# EAGLE library part LTC3600 (library Lysenko_Eagle_Lib)
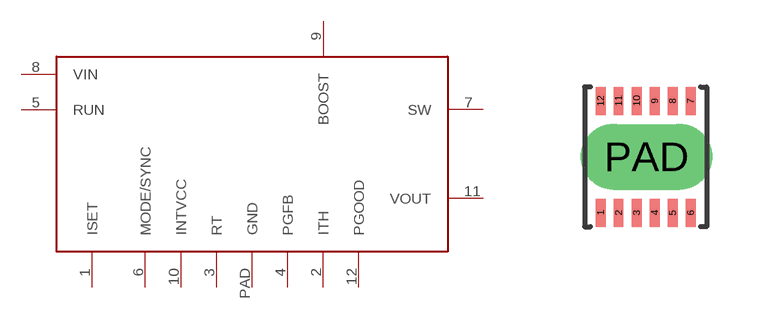
[diagram p17: symbol with the pads of DFN12; footprint DFN12]

Designator prefix -

## LTC3600  [DFN12]
1  ISET
2  ITH
3  RT
4  PGFB
5  RUN
6  MODE/SYNC
7  SW
8  VIN
9  BOOST
10  INTVCC
11  VOUT
12  PGOOD
PAD  GND

## Footprint DFN12 (pad centres in mm)
smd 0.25 x 0.7: 1 0,0; 2 0.45,0; 3 0.9,0; 4 1.35,0; 5 1.8,0; 6 2.25,0; 7 2.25,2.8; 8 1.8,2.8; 9 1.35,2.8; 10 0.9,2.8; 11 0.45,2.8; 12 0,2.8
drill 1.1 pad 1.27 long: PAD 1.15,1.4